# Altium schematic symbol library J107F1CS125VDCP36.SchLib: 2 symbols
Pins are listed as number, name and electrical type; pins without a type are passive.

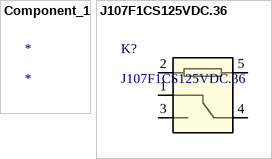
[diagram p0: symbols Component_1 to J107F1CS125VDC.36]

## Component_1
designator *

## J107F1CS125VDC.36
designator K?
No Description Available; Manufacturer_Name: CIT Relay & Switch; Type: Power Relays; Copyright: Copyright (C) 2025 Ultra Librarian. All rights reserved.; Manufacturer_Part_Number: J107F1CS125VDC.36; RefDes: RefDes
footprint RELAY5_J107F-1C_CRS
pins: 1, 2, 3, 4, 5